# Altium schematic symbol library Conn,MicroSD,SMD,Push-Push.Schlib: 1 symbol
Pins are listed as number, name and electrical type; pins without a type are passive.

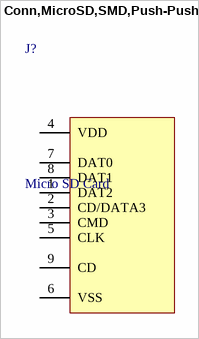
[diagram p0: symbol Conn,MicroSD,SMD,Push-Push]

## Conn,MicroSD,SMD,Push-Push
designator J?, comment Micro SD Card
9 (8 + 1) Position Card Connector Secure Digital - microSD™ Surface Mount, Right Angle Gold
pins: 1 DAT2, 2 CD/DATA3, 3 CMD, 4 VDD, 5 CLK, 6 VSS, 7 DAT0, 8 DAT1, 9 CD